# Altium schematic symbol library DIODE-2.SchLib: 1 symbol
Pins are listed as number, name and electrical type; pins without a type are passive.

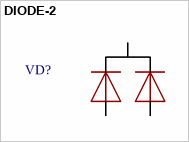
[diagram p0: symbol DIODE-2]

## DIODE-2
designator VD?
pins: 1 A, 2 C, 3 A